# EAGLE library part MAX3485-PCB (library Coert Vonk maybe old)
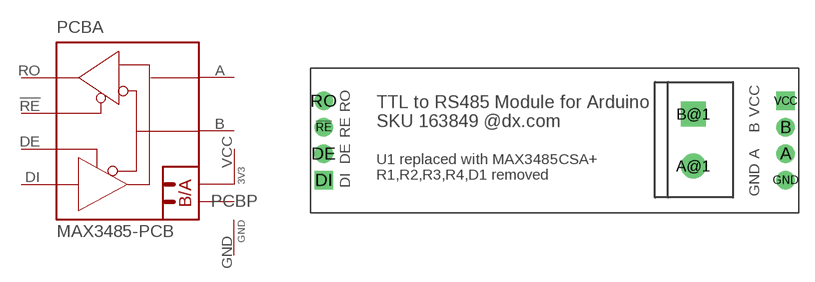
[diagram p13: symbol with the pads of MAX485_PCB; footprint MAX485_PCB]

Designator prefix PCB; gates A=MAX3485-PCB P=3V3-GND

## MAX3485-PCB  [MAX485_PCB]
!RE  A:!RE  in
A  A:A  pas
A@1  A:A'  pas
B  A:B  pas
B@1  A:B'  pas
DE  A:DE  in
DI  A:DI  in
GND  P:GND  sup
RO  A:RO  out
VCC  P:VCC  pas

## Footprint MAX485_PCB (pad centres in mm)
PCB from http://www.dx.com/p/ttl-to-rs485-module-for-arduino-green-163849
drill 1 pad 1.778: !RE 1.27,7.62; A 45.72,5.08; B 45.72,7.62; DE 1.27,5.08; GND 45.72,2.54; RO 1.27,10.16
drill 1.3 pad 2.413: A@1 36.83,3.89
drill 1.3 pad 2.413 square: B@1 36.83,8.89
drill 1 pad 1.778 square: DI 1.27,2.54; VCC 45.72,10.16